# Altium footprint library DIOM5226X244N.PcbLib: 1 footprints
Each footprint in its own frame and in the unit in brackets; x right, y up, seen from the top. Pads: shape width x height; smd on the part's side, far side on the other; paste and mask are expansions set on the pad; w line width, h text height; cw(c..) or ccw(c..) is an arc to the next point about the centre after c.
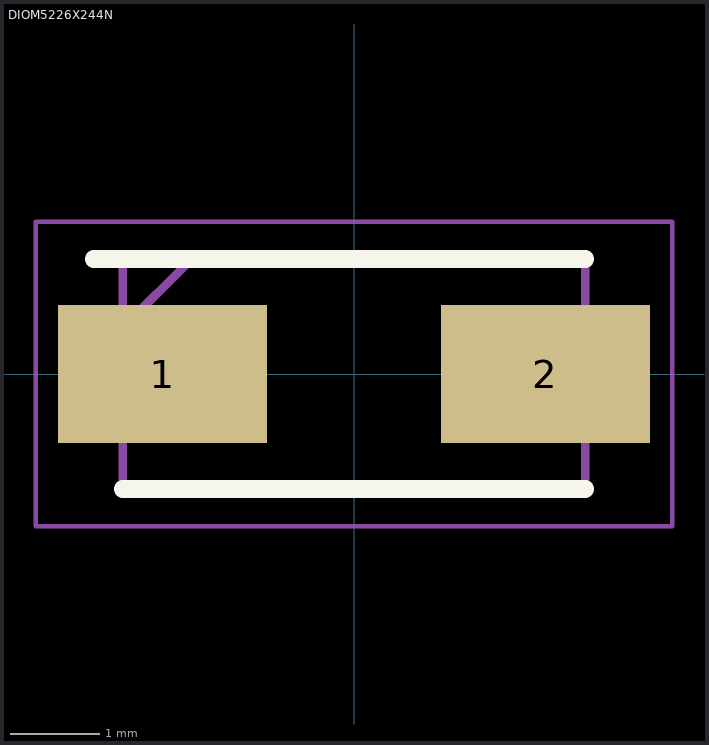
[diagram p0: the footprint, top view; thin cyan lines are the x and y axes]

## DIOM5226X244N [mm]
pads (2):
  rect 2.35x1.55 smd: 1(-2.15,0) 2(2.15,0)
Top Overlay:
  lines w0.2: -2.925,1.292 2.598,1.292 ; -2.598,-1.292 2.598,-1.292
Mechanical 15:
  lines w0.1: -2.598,0.518 -1.822,1.292 ; -2.598,-1.292 2.598,-1.292 2.598,1.292 -2.598,1.292 -2.598,-1.292
Mechanical 20:
  lines w0.05: -3.575,-1.71 3.575,-1.71 3.575,1.71 -3.575,1.71 -3.575,-1.71